# EAGLE library part HAUPTSCHUETZ_3-POL_SCHLIESSER (library e-schuetze-relais)
Hauptschütz mit 3 Schließern
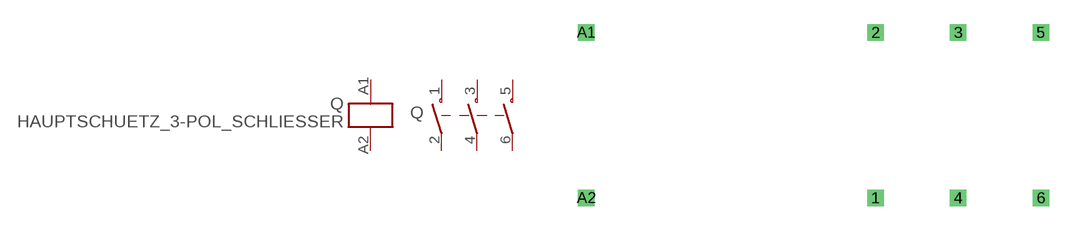
[diagram p20: symbol with the pads of HAUPTSCHUETZ_3-POL; footprint HAUPTSCHUETZ_3-POL]

Designator prefix Q; gates G$1=SPULE G$2=SCHLIESSER_HAUPTSCHUETZ_3-POL

## HAUPTSCHUETZ_3-POL_SCHLIESSER  [HAUPTSCHUETZ_3-POL]
1  G$2:1  pas
2  G$2:2  pas
3  G$2:3  pas
4  G$2:4  pas
5  G$2:5  pas
6  G$2:6  pas
A1  G$1:A1  in
A2  G$1:A2  in

## Footprint HAUPTSCHUETZ_3-POL (pad centres in mm)
Dummy
drill 0.5 pad 1 square: 1 7.62,-7.62; 2 7.62,2.54; 3 12.7,2.54; 4 12.7,-7.62; 5 17.78,2.54; 6 17.78,-7.62; A1 -10.16,2.54; A2 -10.16,-7.62